# Altium footprint library STM8S103_FM1702.PcbLib: 4 footprints
Each footprint in its own frame and in the unit in brackets; x right, y up, seen from the top. Pads: shape width x height; smd on the part's side, far side on the other; paste and mask are expansions set on the pad; w line width, h text height; cw(c..) or ccw(c..) is an arc to the next point about the centre after c.
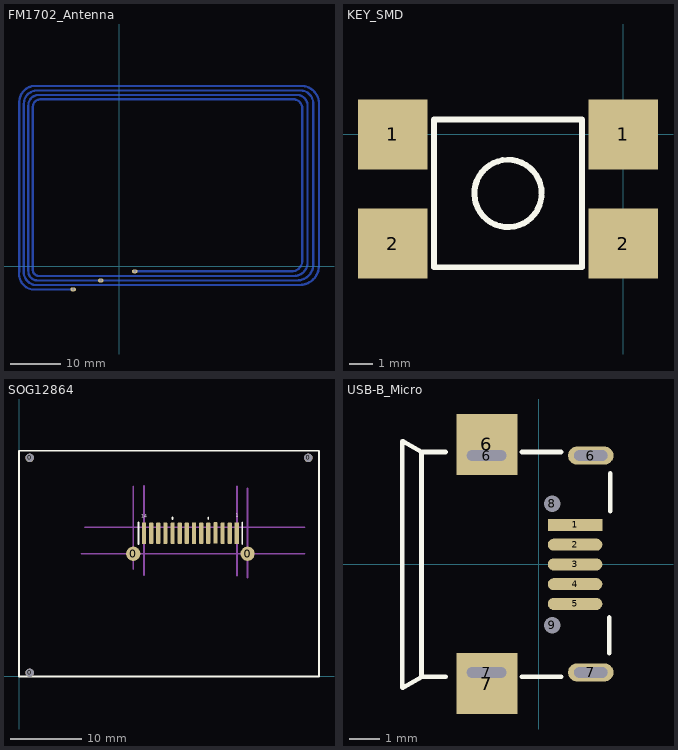
[diagram p0: the footprints below, top view; thin cyan lines are the x and y axes]

## FM1702_Antenna [mil]
pads (3):
  oval 43.31x30 hole 19.68: 1(-360,-180.94) 2(-145,-110.94) 3(120,-40)
Bottom Layer:
  lines w17.72: -638.73,1369.7 ccw(c-639.32,1264.7) -744.32,1265.3 -744.32,-25.3 ccw(c-641.86,-43.5) -660.06,-145.96 1405.15,-145.96 ccw(c1405.15,3.17) 1554.28,3.17 1554.28,1250.64 ccw(c1415.74,1266.17) 1431.28,1404.7 -649.73,1404.7 ccw(c-654.02,1279.4) -779.32,1283.7 -779.32,-32.3 ccw(c-657.02,-58.66) -683.39,-180.96 -360,-180.94 ; -638.72,1369.7 1408.02,1369.7 cw(c1408.65,1268.07) 1510.28,1268.71 1510.28,14.04 cw(c1385.27,14.04) 1385.27,-110.96 -639.39,-110.96 cw(c-637.94,-39.58) -709.32,-38.14 -709.32,1252.7 cw(c-628.52,1253.9) -629.72,1334.7 1387.28,1334.7 cw(c1381.78,1250.2) 1466.28,1244.7 1466.28,29.17 cw(c1361.15,29.17) 1361.15,-75.96 -619.32,-75.96 cw(c-625.99,-27.63) -674.32,-34.3 -674.32,1241.7 cw(c-616.32,1241.7) -616.32,1299.7 1365.28,1299.7 cw(c1353.78,1229.2) 1424.28,1217.7 1424.28,42.17 cw(c1342.11,42.17) 1342.11,-40 120,-40

## KEY_SMD [mm]
height 3
pads (4):
  rect 3x3 smd: 1(-9.906,0) 1(0,0) 2(-9.906,-4.699) 2(0,-4.699)
Top Overlay:
  lines w0.254: -3.51,-2.66 cw(c-4.953,-2.54) -3.505,-2.54 ; -8.128,-5.715 -1.778,-5.715 -1.778,0.635 -8.128,0.635 -8.128,-5.715

## SOG12864 [mm]
pads (19):
  round 1.2 hole 1.2: 0(1.5,0.5) 0(1.5,30.6) 0(40.5,30.6)
  round 2 smd: 0(16.002,17.19) 0(32.004,17.19)
  rect 0.6x3 smd: 1(30.5,20.054)
  rrect50% 0.6x3 smd: 2(29.5,20.054) 3(28.5,20.054) 4(27.508,20.117) 5(26.5,20.054) 6(25.5,20.054) 7(24.5,20.054) 8(23.5,20.054) 9(22.5,20.054) 10(21.5,20.054) 11(20.5,20.054) 12(19.5,20.054) 13(18.5,20.054) 14(17.5,20.054)
Top Overlay:
  lines w0.254: 16.75,18.554 16.75,21.554 ; 21.5,22.054 21.5,22.304 ; 26.5,22.054 26.5,22.304 ; 31.25,18.554 31.25,21.554 ; 0,0 0,31.6 42,31.6 42,0 0,0
  text "14" at 17.145,21.996 h0.76
  text "1" at 30.353,22.098 h0.76
Mechanical 1:
  lines w0.254: 8.763,17.19 40,17.19 ; 9.195,20.9 40,20.9 ; 16,15.037 16,26.619 ; 17.5,14.173 17.5,26.67 ; 30.5,14.148 30.5,26.645 ; 32,13.868 32,26.365
3D body: height -0.2, standoff -0.8, extent 1.004,0.001 2,0.999
3D body: height -0.2, standoff -0.8, extent 40.004,30.101 41,31.099
3D body: height -0.2, standoff -0.8, extent 1.004,30.101 2,31.099
3D body: height 2.6, standoff 0, extent 0,0 42.012,31.598

## USB-B_Micro [mm]
pads (13):
  rect 1.8x0.4 smd: 1(1.198,1.287)
  oval 1.8x0.4 smd: 2(1.198,0.637) 3(1.198,-0.013) 4(1.198,-0.663) 5(1.198,-1.313)
  oval 1.9x0.6 hole 0.35 slot 1.3 at 0 deg: 6(-1.714,3.569) 7(-1.714,-3.569)
  rect 2x2 smd: 6(-1.702,3.937) 7(-1.702,-3.937)
  oval 1.5x0.6 hole 0.35 slot 1.1 at 0 deg: 6(1.714,3.569) 7(1.714,-3.569)
  round 0.5 hole 0.55 unplated: 8(0.445,1.987) 9(0.445,-2.013)
Top Overlay:
  lines w0.152: -4.486,-4.063 -4.486,4.037 ; -4.455,-4.063 -3.855,-3.713 ; -4.455,4.037 -3.855,3.687 ; -3.055,-3.713 -3.855,-3.713 ; -3.055,3.687 -3.855,3.687 ; -0.555,-3.713 0.744,-3.713 ; -0.555,3.687 0.744,3.687 ; 2.324,-2.934 2.324,-1.763 ; 2.349,1.737 2.349,2.984 ; -3.855,-3.713 -3.855,3.687
3D body: height 2.7, standoff -1.05, extent -4.458,-4.029 2.16,4.055